# Altium schematic symbol library SCH - ANNOTATION - ID REVISION.SCHLIB: 1 symbol
Pins are listed as number, name and electrical type; pins without a type are passive.

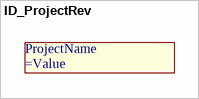
[diagram p0: symbol ID_ProjectRev]

## ID_ProjectRev
designator ProjectName  (no BOM)
Project Name and Revision Number